# Altium footprint library PcbLib1.PcbLib: 7 footprints
Each footprint in its own frame and in the unit in brackets; x right, y up, seen from the top. Pads: shape width x height; smd on the part's side, far side on the other; paste and mask are expansions set on the pad; w line width, h text height; cw(c..) or ccw(c..) is an arc to the next point about the centre after c.
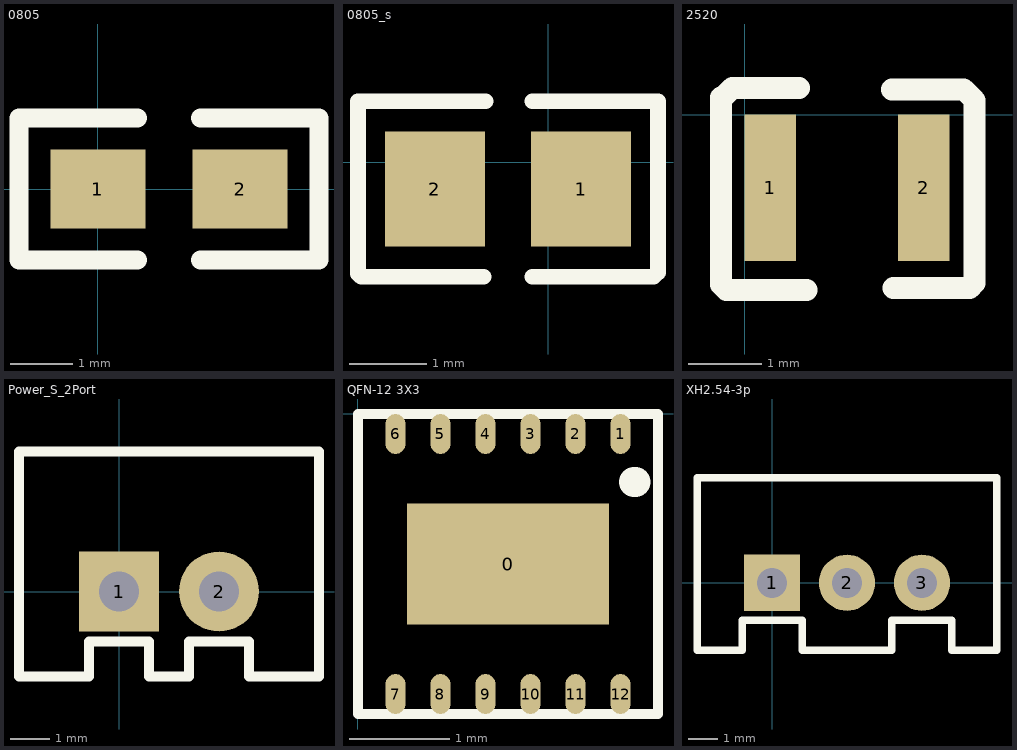
[diagram p0: the footprints below, top view; thin cyan lines are the x and y axes]

## 0805 [mil]
pads (2):
  rect 60x50 smd: 1(0,0) 2(90,0)
Top Overlay:
  lines w12: 25,-45 -50,-45 -50,45 25,45 ; 65,-45 140,-45 140,45 65,45

## 0805_s [mm]
pads (2):
  rect 1.3x1.499 smd: 1(0.425,-0.35) 2(-1.475,-0.35)
Top Overlay:
  lines w0.203: -0.84,-1.493 -2.432,-1.493 -2.475,-1.45 -2.475,0.793 -0.818,0.793 ; -0.21,-1.493 1.368,-1.493 1.425,-1.436 1.425,0.793 -0.21,0.793

## 2520 [mm]
pads (2):
  rect 0.7x2 smd: 1(0.35,-1) 2(2.45,-1)
Top Overlay:
  lines w0.3: 0.745,0.365 -0.165,0.365 -0.199,0.331 -0.266,0.264 -0.3,0.23 -0.325,0.23 -0.325,-2.32 -0.245,-2.4 0.85,-2.4 ; 2.015,0.345 2.995,0.345 3.145,0.195 3.145,-2.3 3.075,-2.37 2.035,-2.37

## Power_S_2Port [mil]
pads (2):
  rect 80x80 hole 40: 1(0,0)
  round 80 hole 40: 2(100,0)
Top Overlay:
  lines w10: -100,-85 -100,140 200,140 200,-85 130,-85 130,-50 70,-50 70,-85 30,-85 30,-50 -30,-50 -30,-85 -100,-85

## QFN-12 3X3 [mm]
pads (13):
  rect 2.02x1.21 smd: 0(1.5,-1.5)
  oval 0.2x0.4 smd: 1(2.625,-0.2) 2(2.175,-0.2) 3(1.725,-0.2) 4(1.275,-0.2) 5(0.825,-0.2) 6(0.375,-0.2) 7(0.375,-2.8) 8(0.825,-2.8) 9(1.275,-2.8) 10(1.725,-2.8) 11(2.175,-2.8) 12(2.625,-2.8)
Top Overlay:
  lines w0.1: 0,-3 3,-3 3,0 0,0 0,-3
  lines w0.3: 2.76,-0.68 2.775,-0.68

## XH2.54-3p [mil]
pads (3):
  rect 75x75 hole 40: 1(0,0)
  round 75 hole 40: 2(100,0) 3(200,0)
Top Overlay:
  lines w10: -100,-90 -100,140 300,140 300,-90 240,-90 240,-50 160,-50 160,-90 40,-90 40,-50 -40,-50 -40,-90 -100,-90

## 固定过孔 [mm]
via 0,0 diameter 5 hole 3